# Altium footprint library PCB - LED - Broadcom 4-PLLC 3228.PCBLIB: 1 footprints
Each footprint in its own frame and in the unit in brackets; x right, y up, seen from the top. Pads: shape width x height; smd on the part's side, far side on the other; paste and mask are expansions set on the pad; w line width, h text height; cw(c..) or ccw(c..) is an arc to the next point about the centre after c.
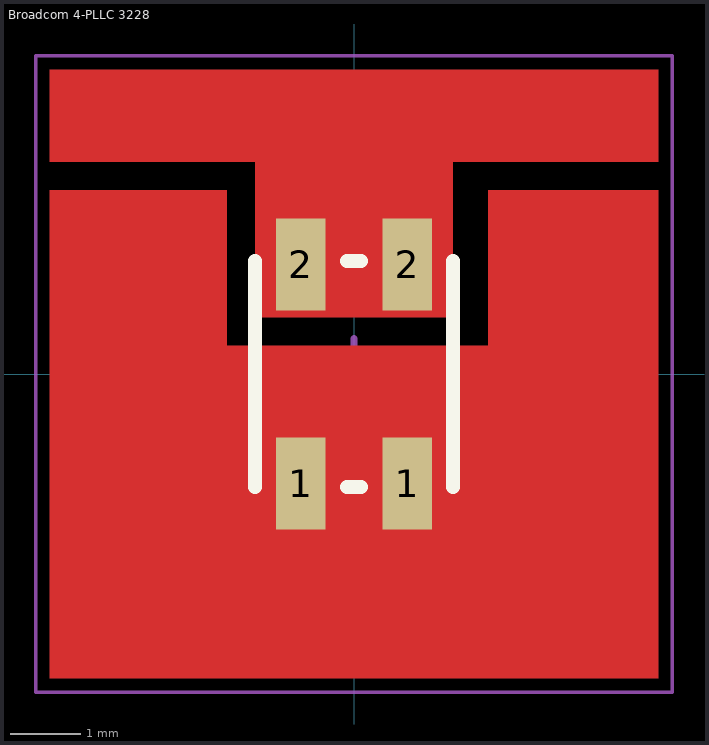
[diagram p0: the footprint, top view; thin cyan lines are the x and y axes]

## Broadcom 4-PLLC 3228 [mm] "SOJ, 6-Leads, Body 3.20x2.80mm, IPC Medium Density"
height 2.1
pads (4):
  rect 0.7x1.3 smd paste-0.05 mask+0.1: 1(-0.75,-1.55) 1(0.75,-1.55) 2(-0.75,1.55) 2(0.75,1.55)
Top Layer:
  region: -1.4,0.8 1.4,0.8 1.4,3 4.3,3 4.3,4.3 -4.3,4.3 -4.3,3 -1.4,3
  region: -4.3,2.6 -1.8,2.6 -1.8,0.4 1.9,0.4 1.9,2.6 4.3,2.6 4.3,-4.3 -4.3,-4.3
Top Overlay:
  lines w0.2: -1.4,-1.6 -1.4,1.6 ; -0.1,-1.6 0.1,-1.6 ; -0.1,1.6 0.1,1.6 ; 1.4,-1.6 1.4,1.6
Top Paste:
  rectangle: 0.575,-0.5 1.175,0.4
  region: -0.576,0.403 -1.176,0.403 -1.176,-0.5 -0.576,-0.5
Top Solder:
  rectangle: -1.25,-0.5 -0.55,0.4
  region: 1.25,0.4 0.55,0.4 0.55,-0.5 1.25,-0.5
Mechanical 13:
  lines w0.1: -1.4,-1.6 1.4,-1.6 1.4,1.6 -1.4,1.6 -1.4,-1.6
Mechanical 15:
  lines w0.05: -4.5,-4.5 -4.5,4.5 4.5,4.5 4.5,-4.5 -4.5,-4.5
Mechanical 2 (Mech9):
  lines w0.1: -0.5,0 0.5,0 ; 0,-0.5 0,0.5
3D body "Broadcom - 4-PLCC LENS.step": height 2.1, standoff 1.2, extent -1.198,-1.19 1.198,1.2
3D body "Broadcom - 4-PLCC Base.step": height 2.1, standoff 0, extent -1.4,-1.8 1.4,1.8
3D body "Broadcom - 4-PLCC RED.step": height 1.4, standoff 1.2, extent -0.3,-0.3 0.3,0.3